# Altium schematic symbol library JLCPCB_Transistors_N-MOS.SchLib: 1 symbol
Pins are listed as number, name and electrical type; pins without a type are passive.

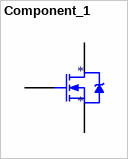
[diagram p0: symbol Component_1]

## Component_1
designator *
pins: 1 G, 2 D, 3 S